# EAGLE library part CNCT6 (library 1rizmlib v1)
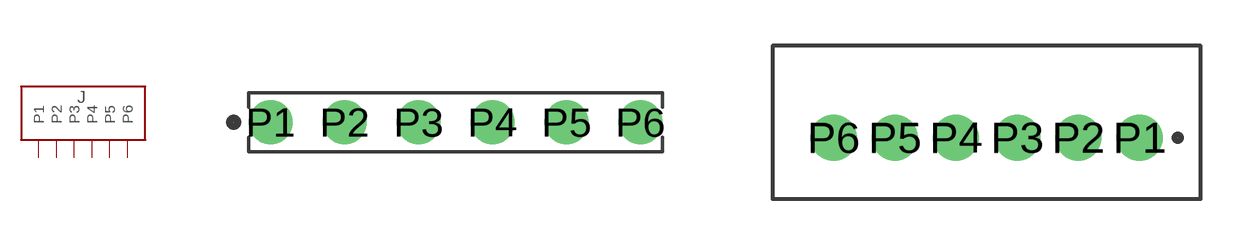
[diagram p0: symbol with the pads of PH100MIL6; footprints PH100MIL6, JST-PH-6]

Designator prefix J

## CNCT6PH100MIL  [PH100MIL6]
P1  P1  pas
P2  P2  pas
P3  P3  pas
P4  P4  pas
P5  P5  pas
P6  P6  pas

## CNCT6JST-PH  [JST-PH-6]
Pads as for PH100MIL6

## Footprint PH100MIL6 (pad centres in mm)
6-pin 100mil pinheader
drill 1: P1 -6.35,0; P2 -3.81,0; P3 -1.27,0; P4 1.27,0; P5 3.81,0; P6 6.35,0

## Footprint JST-PH-6 (pad centres in mm)
JST PC connector 6-pin
drill 1: P1 5,0; P2 3,0; P3 1,0; P4 -1,0; P5 -3,0; P6 -5,0